# EAGLE library part FXMA2102 (library signpost)
Dual Supply, 2-Bit Voltage Translator / Buffer / Repeater / Isolator for I2C
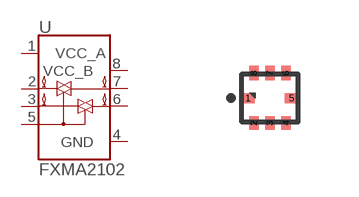
[diagram p13: symbol with the pads of UMLP-8; footprint UMLP-8]

Designator prefix U

## FXMA2102 (DIGIKEY: FXMA2102UMXCT-ND)  [UMLP-8]
1  VCC_A
2  A0
3  A1
4  GND
5  OE
6  B1
7  B0
8  VCC_B

## Footprint UMLP-8 (pad centres in mm)
smd 0.35 x 0.25: 1 -0.55,0; 5 0.55,0
smd 0.24 x 0.35: 2 -0.4,-0.625; 3 0,-0.625; 4 0.4,-0.625; 6 0.4,0.625; 7 0,0.625; 8 -0.4,0.625